# Altium schematic symbol library SchemLib.SchLib: 3 symbols
Pins are listed as number, name and electrical type; pins without a type are passive.

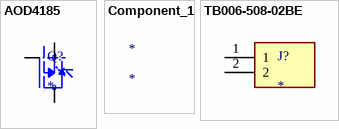
[diagram p0: symbols AOD4185 to TB006-508-02BE]

## AOD4185
designator Q?
P-Channel 40V 40A (Tc) 2.5W (Ta), 62.5W (Tc) Surface Mount TO-252, (D-Pak); MF: Alpha &; MP: AOD4185; SnapEDA_Link: https://www.snapeda.com/parts/AOD4185/Alpha+%2526+Omega+Semiconductor+Inc./view-part/?ref=snap; Package: TO-252 Alpha &amp; Omega Semiconductor; Value: *; Check_prices: https://www.snapeda.com/parts/AOD4185/Alpha+%2526+Omega+Semiconductor+Inc./view-part/?ref=eda
footprint TO252
pins: 1 G, 2 S, 3 D

## Component_1
designator *

## TB006-508-02BE
designator J?
2~24 Poles, Screw Type, Horizontal, 5.08 Pitch, 26~14 (AWG), Terminal Block Connector; MF: Same Sky; MP: TB006-508-02BE; SnapEDA_Link: https://www.snapeda.com/parts/TB006-508-02BE/Same+Sky/view-part/?ref=snap; Package: None; Value: *; Check_prices: https://www.snapeda.com/parts/TB006-508-02BE/Same+Sky/view-part/?ref=eda; Supplier 1: Arrow Electronics; Supplier Part Number 1: TB006-508-02BE
footprint CUI_TB006-508-02BE
pins: 1, 2